# Altium footprint library HEXCAL_PCB_LIB.PcbLib: 209 footprints (part 12 of 14)
Each footprint in its own frame and in the unit in brackets; x right, y up, seen from the top. Pads: shape width x height; smd on the part's side, far side on the other; paste and mask are expansions set on the pad; w line width, h text height; cw(c..) or ccw(c..) is an arc to the next point about the centre after c.
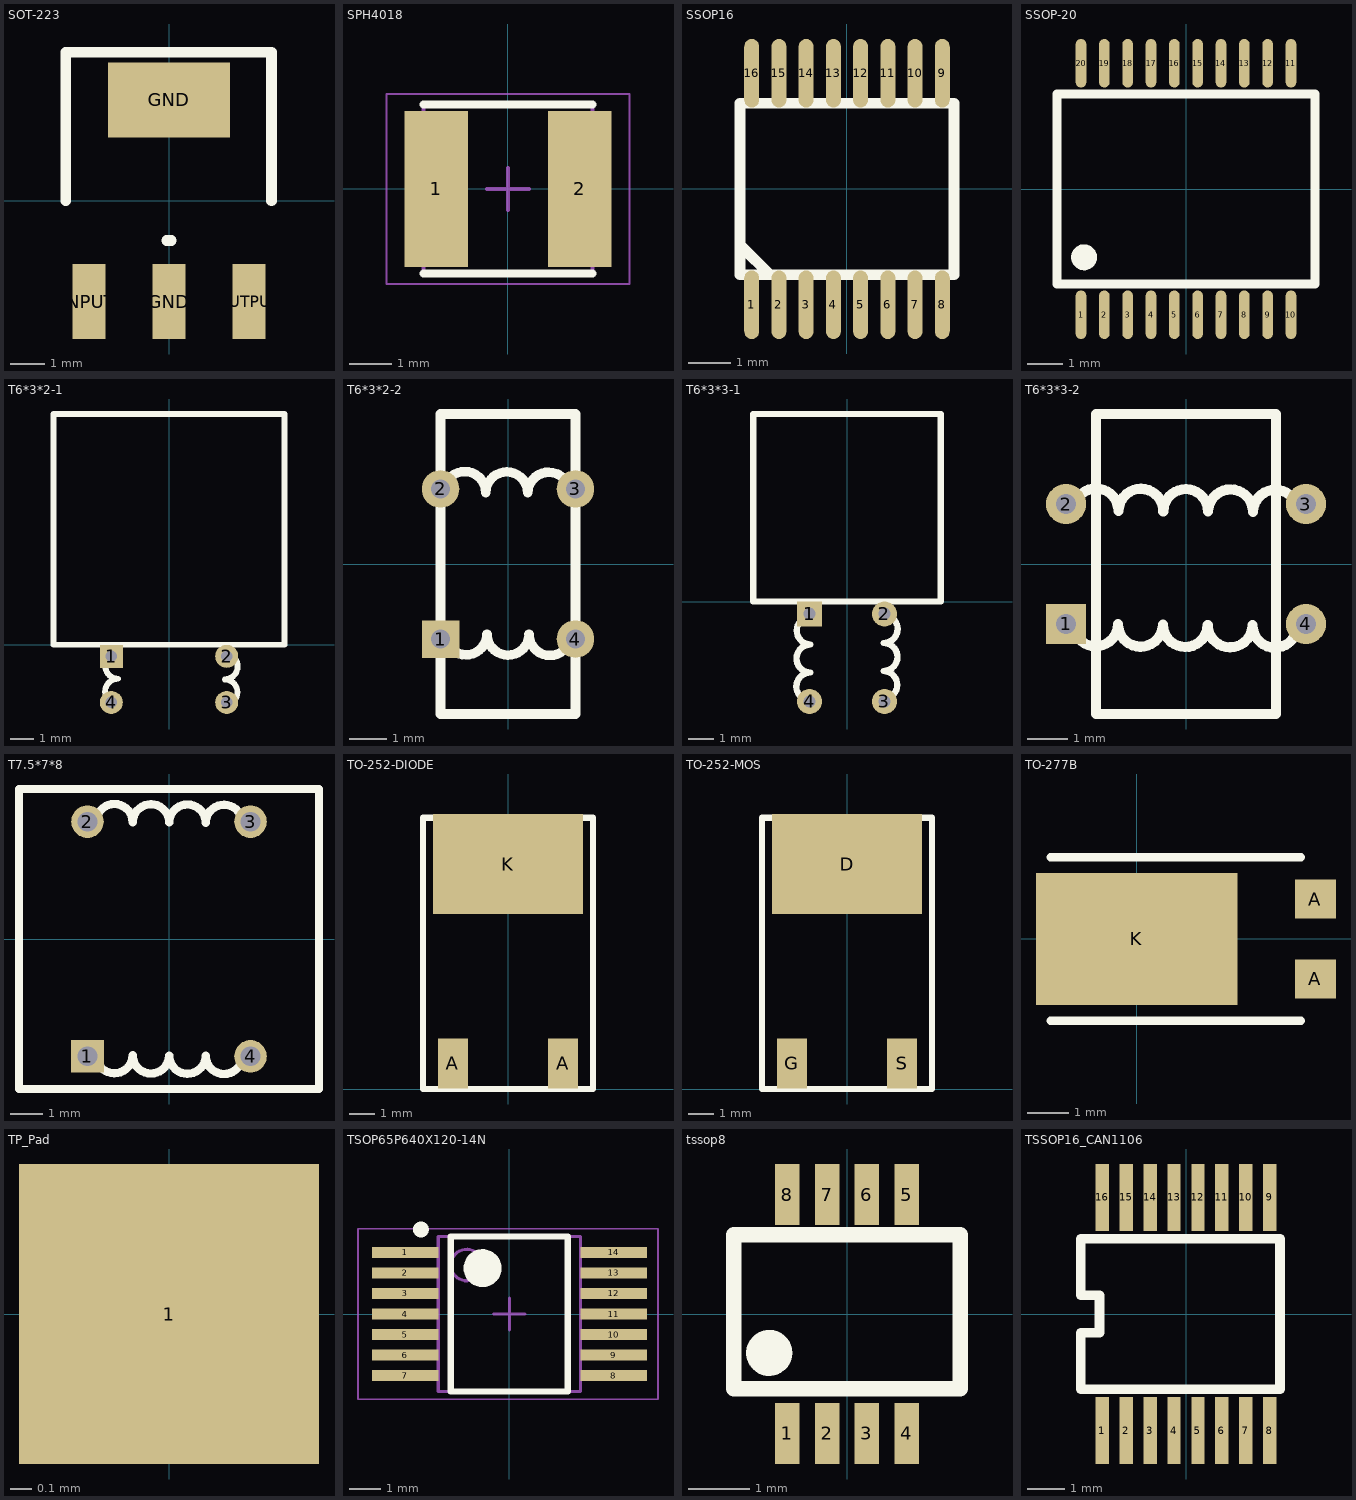
[diagram p11: the footprints below, top view; thin cyan lines are the x and y axes]

## SOT-223 [mm]
height 7
pads (4):
  rect 0.95x2.15 smd: GND(0,-2.9) INPUT(-2.3,-2.9) OUTPUT(2.3,-2.9)
  rect 3.5x2.15 smd: GND(0,2.9)
Top Overlay:
  lines w0.305: -2.972,0 -2.972,4.267 2.946,4.267 2.946,0 ; -0.063,-1.143 0.064,-1.143

## SPH4018 [mm] "Precision Wire Wound Inductor, 2-Leads, Body 4.00x4.00mm, IPC Medium Density"
height 1.8
pads (2):
  rect 1.5x3.7 smd: 1(-1.7,0) 2(1.7,0)
Top Overlay:
  lines w0.2: -2,-2 2,-2 ; -2,2 2,2
Mechanical 13:
  lines w0.1: -2,-2 2,-2 2,2 -2,2 -2,-2
Mechanical 15:
  lines w0.05: -2.875,-2.25 2.875,-2.25 2.875,2.25 -2.875,2.25 -2.875,-2.25
  lines w0.1: -0.5,0 0.5,0 ; 0,-0.5 0,0.5
3D body: height 1.9, standoff 0, extent -2.1,-2 2.1,2

## SSOP16 [mm]
pads (16):
  oval 0.35x1.6 smd: 1(-2.222,-2.7) 2(-1.587,-2.7) 3(-0.953,-2.7) 4(-0.318,-2.7) 5(0.318,-2.7) 6(0.953,-2.7) 7(1.587,-2.7) 8(2.222,-2.7) 9(2.222,2.7) 10(1.587,2.7) 11(0.953,2.7) 12(0.318,2.7) 13(-0.318,2.7) 14(-0.953,2.7) 15(-1.587,2.7) 16(-2.222,2.7)
Top Overlay:
  lines w0.254: -2.45,-1.35 -1.8,-2 ; -2.5,2 2.5,2 2.5,-2 -2.5,-2 -2.5,2

## SSOP-20 [mm]
pads (20):
  oval 0.3x1.35 smd: 1(-2.925,-3.505) 2(-2.275,-3.505) 3(-1.625,-3.505) 4(-0.975,-3.505) 5(-0.325,-3.505) 6(0.325,-3.505) 7(0.975,-3.505) 8(1.625,-3.505) 9(2.275,-3.505) 10(2.925,-3.505) 11(2.925,3.505) 12(2.275,3.505) 13(1.625,3.505) 14(0.975,3.505) 15(0.325,3.505) 16(-0.325,3.505) 17(-0.975,3.505) 18(-1.625,3.505) 19(-2.275,3.505) 20(-2.925,3.505)
Top Overlay:
  circle w0.254: c-2.84,-1.904 r0.234
  circle w0.254: c-2.84,-1.904 r0.076
  lines w0.254: -3.6,-2.65 -3.6,2.65 0,2.65 3.6,2.65 3.6,-2.65 -3.6,-2.65

## T6*3*2-1 [mm]
pads (4):
  rect 1x1 hole 0.5: 1(-2.5,-0.5)
  round 1 hole 0.5: 2(2.5,-0.5) 3(2.5,-2.5) 4(-2.5,-2.5)
Top Overlay:
  lines w0.254: -2.218,-2.594 cw(c-2.21,-2.033) -2.21,-1.473 cw(c-2.202,-0.913) -2.202,-0.353 ; 2.405,-2.619 ccw(c2.405,-2.059) 2.413,-1.499 ccw(c2.413,-0.938) 2.421,-0.378 ; -5,0 5,0 5,10 -5,10 -5,0

## T6*3*2-2 [mm]
pads (4):
  rect 1x1 hole 0.5: 1(-1.8,-2)
  round 1 hole 0.5: 2(-1.8,2) 3(1.8,2) 4(1.8,-2)
Top Overlay:
  lines w0.254: -1.713,1.912 cw(c-1.153,1.904) -0.593,1.904 cw(c-0.033,1.896) 0.528,1.896 cw(c1.088,1.888) 1.648,1.888 ; -1.681,-1.862 ccw(c-1.12,-1.862) -0.56,-1.87 ccw(c0,-1.87) 0.56,-1.878 ccw(c1.12,-1.878) 1.681,-1.886 ; -1.8,-4 -1.8,4 1.8,4 1.8,-4 -1.8,-4

## T6*3*3-1 [mm]
pads (4):
  rect 1x1 hole 0.5: 1(-1.5,-0.5)
  round 1 hole 0.5: 2(1.5,-0.5) 3(1.5,-4) 4(-1.5,-4)
Top Overlay:
  lines w0.254: -1.473,-3.962 cw(c-1.465,-3.402) -1.465,-2.842 cw(c-1.457,-2.282) -1.457,-1.721 cw(c-1.449,-1.161) -1.449,-0.601 ; 1.449,-3.899 ccw(c1.449,-3.339) 1.457,-2.779 ccw(c1.457,-2.218) 1.465,-1.658 ccw(c1.465,-1.098) 1.473,-0.538 ; -3.75,0 -3.75,7.5 3.75,7.5 3.75,0 -3.75,0

## T6*3*3-2 [mm]
pads (4):
  rect 1x1 hole 0.5: 1(-3,-1.5)
  round 1 hole 0.5: 2(-3,1.5) 3(3,1.5) 4(3,-1.5)
Top Overlay:
  lines w0.254: -2.819,-1.499 ccw(c-2.259,-1.499) -1.699,-1.507 ccw(c-1.139,-1.507) -0.578,-1.515 ccw(c-0.018,-1.515) 0.542,-1.523 ccw(c1.102,-1.523) 1.662,-1.531 ccw(c2.223,-1.531) 2.783,-1.539 ; -2.808,1.335 cw(c-2.248,1.327) -1.688,1.327 cw(c-1.128,1.319) -0.567,1.319 cw(c-0.007,1.311) 0.553,1.311 cw(c1.113,1.303) 1.674,1.303 cw(c2.234,1.295) 2.794,1.295 ; -2.25,-3.75 -2.25,3.75 2.25,3.75 2.25,-3.75 -2.25,-3.75

## T7.5*7*8 [mm]
pads (4):
  rect 1x1 hole 0.6: 1(-2.5,-3.6)
  round 1 hole 0.6: 2(-2.5,3.6) 3(2.5,3.6) 4(2.5,-3.6)
Top Overlay:
  lines w0.254: -2.235,-3.556 ccw(c-1.675,-3.556) -1.115,-3.564 ccw(c-0.554,-3.564) 0.006,-3.572 ccw(c0.566,-3.572) 1.126,-3.58 ccw(c1.686,-3.58) 2.247,-3.588 ; -2.235,3.588 cw(c-1.675,3.58) -1.115,3.58 cw(c-0.555,3.572) 0.006,3.572 cw(c0.566,3.564) 1.126,3.564 cw(c1.686,3.556) 2.247,3.556 ; -4.6,-4.6 4.6,-4.6 4.6,4.6 -4.6,4.6 -4.6,-4.6

## TO-252-DIODE [mm]
pads (3):
  rect 1.2x2 smd: A(-2.2,1.024) A(2.2,1.024)
  rect 6x4 smd: K(0,9)
Top Overlay:
  lines w0.254: -3.4,0 3.4,0 3.4,10.846 -3.4,10.846 -3.4,0

## TO-252-MOS [mm]
pads (3):
  rect 6x4 smd: D(0,9)
  rect 1.2x2 smd: G(-2.2,1.024) S(2.2,1.024)
Top Overlay:
  lines w0.254: -3.4,0 -3.4,10.846 3.4,10.846 3.4,0 -3.4,0

## TO-277B [mm]
pads (3):
  rect 1x0.95 smd: A(4.35,-0.97) A(4.35,0.97)
  rect 4.9x3.2 smd: K(0,0)
Top Overlay:
  lines w0.2: -2.1,-1.99 4,-1.99 ; -2.1,1.99 4,1.99

## TP_Pad [mm]
pads (1):
  rect 1.4x1.4 smd paste-1.4: 1(0,0)

## TSOP65P640X120-14N [mm] "TSOP, 14-Leads, Body 5.00x4.40mm, Pitch 0.65mm, IPC Medium Density"
height 1.2
pads (14):
  rect 2.1x0.35 smd: 1(-3.3,1.95) 2(-3.3,1.3) 3(-3.3,0.65) 4(-3.3,0) 5(-3.3,-0.65) 6(-3.3,-1.3) 7(-3.3,-1.95) 8(3.3,-1.95) 9(3.3,-1.3) 10(3.3,-0.65) 11(3.3,0) 12(3.3,0.65) 13(3.3,1.3) 14(3.3,1.95)
Top Overlay:
  circle w0.6: c-0.85,1.45 r0.3
  circle w0.25: c-2.8,2.675 r0.125
  lines w0.2: -1.85,-2.45 1.85,-2.45 1.85,2.45 -1.85,2.45 -1.85,-2.45
Mechanical 13:
  circle w0.1: c-1.35,1.55 r0.5
  lines w0.1: -2.25,-2.45 2.25,-2.45 2.25,2.45 -2.25,2.45 -2.25,-2.45
Mechanical 15:
  lines w0.05: -4.79,-2.7 4.704,-2.7 4.704,2.7 -4.79,2.7 -4.79,-2.7
  lines w0.1: -0.5,0 0.5,0 ; 0,-0.5 0,0.5
3D body: height 1.2, standoff 0.25, extent -2.25,-2.45 2.25,2.45

## tssop8 [mm]
pads (8):
  rect 0.4x1 smd: 1(-0.975,-1.95) 2(-0.325,-1.95) 3(0.325,-1.95) 4(0.975,-1.95) 5(0.975,1.95) 6(0.325,1.95) 7(-0.325,1.95) 8(-0.975,1.95)
Top Overlay:
  circle w0.254: c-1.27,-0.635 r0.25
  circle w0.254: c-1.27,-0.635 r0.13
  lines w0.254: -1.85,-1.219 1.85,-1.219 1.85,1.295 -1.85,1.295 -1.85,-1.219

## TSSOP16_CAN1106 [mil]
pads (16):
  rect 14x70 smd: 1(-87.5,-122.05) 2(-62.5,-122.05) 3(-37.5,-122.05) 4(-12.5,-122.05) 5(12.5,-122.05) 6(37.5,-122.05) 7(62.5,-122.05) 8(87.5,-122.05) 9(87.5,122.05) 10(62.5,122.05) 11(37.5,122.05) 12(12.5,122.05) 13(-12.5,122.05) 14(-37.5,122.05) 15(-62.5,122.05) 16(-87.5,122.05)
Top Overlay:
  lines w10: -110.24,-78.74 -110.24,-19.68 -90.55,-19.68 -90.55,19.68 -110.24,19.68 -110.24,78.74 98.43,78.74 98.43,-78.74 -110.24,-78.74